# EAGLE library part TMCS1100 (library FlashPCB_Sensors)
TMCS1100 - PRECISION ISOLATED CURRENT SENSOR Technical Specifications: Current Sensor 1 Channel Hall Effect Bidirectional 8-SOIC (0.154", 3.90mm Width) Sensor Type: Hall Effect Output Type: Ratiometric, Voltage Total Error: +/- 1% Operating Voltage: 3V ~ 5.5V Operating Current (MAX): 6mA Sensetivity Options: 50mV/A, 100 mV/A, 200 mV/A, 400 mV/A Component Search: TMCS1100 <[FLASHPCB URL]> Datasheet: TMCS1100 1% High-Precision, Basic Isolation Hall-Effect Current Sensor With ±600-V Working Voltage datasheet (Rev. B) <https://www.ti.com/lit/ds/symlink/tmcs1100.pdf?ts=1666259807502&ref_url=https%253A%252F%252Fwww.google.com%252F>
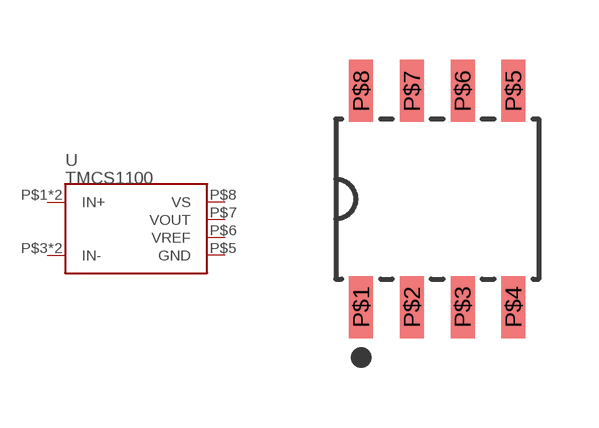
[diagram p25: symbol with the pads of SOIC-8-150MIL-3.9MM; footprint SOIC-8-150MIL-3.9MM]

Designator prefix U

## TMCS1100SOIC-8  [SOIC-8-150MIL-3.9MM]
P$1  IN+
P$2  IN+
P$3  IN-
P$4  IN-
P$5  GND
P$6  VREF
P$7  VOUT
P$8  VS

## Footprint SOIC-8-150MIL-3.9MM (pad centres in mm)
smd 0.6 x 1.55: P$1 -1.905,-2.7; P$2 -0.635,-2.7; P$3 0.635,-2.7; P$4 1.905,-2.7; P$5 1.905,2.7; P$6 0.635,2.7; P$7 -0.635,2.7; P$8 -1.905,2.7